# EAGLE library part 7508113417 (library WE-OLTI)
WE-OLTI Offline Flyback Transformers Characteristics Nominal input voltage: 85–265 VAC (120–375 VDC) Small size Low leakage inductance Multiple-output options Operating temperature: −40 °C to +125 °C Isolation Voltage: 2 kVAC to 5 kVAC Options for fixed frequency or quasi-resonant mode operation Most products meet reinforced insulation Applications Industrial controls USB chargers Utility metering devices Process controls Factory automation Security systems Garage door opener auxiliary supplies Home appliances Especially designed for several ICs from Texas Instruments Details see: www.we-online.com/en/components/products/WE-OLTI Created by Ella 2025-02-06 2025 (C) Würth Elektronik
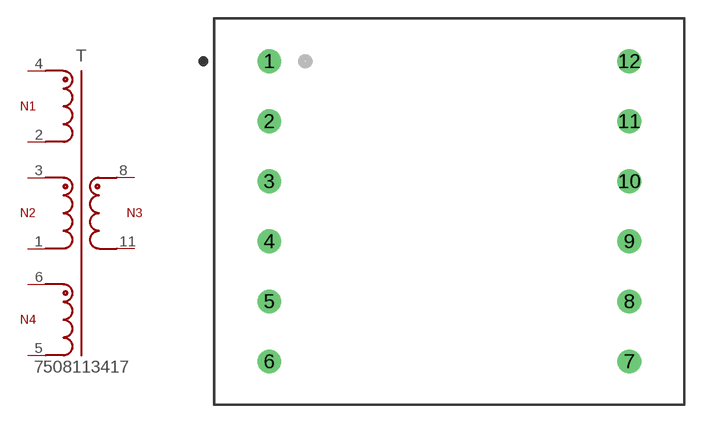
[diagram p18: symbol with the pads of WE-OLTI_ER28/17_L32W39H36; footprint WE-OLTI_ER28/17_L32W39H36]

Designator prefix T

## 7508113417 (AUXILIARY_VOLTAGE_1: 11 V; CATEGORY: Transformers; DATASHEET: https://www.we-online.com/redexpert/spec/7508113417?ae; HEIGHT: 36 mm; INDUCTANCE: 140 uH; INPUT_VOLTAGE: 64 - 265 V (AC); INSULATION_TEST_VOLTAGE: 3000 V (AC); LENGTH: 32 mm; MANUFACTURER: Würth Elektronik; MOUNT: THT; MPN: 7508113417; OUTPUT_CURRENT_1: 3850 mA; OUTPUT_VOLTAGE_1: 19 V; SATURATION_CURRENT: 9.1 A; SIZE: ER28/17; SWITCHING-FREQUENCY: 30 - 130kHz; TURNS_RATIO: 3.25:1:0.58; VALUE: 140 uH; WIDTH: 39 mm)  [WE-OLTI_ER28/17_L32W39H36]
1  1  pas
2  2  pas
3  3  pas
4  4  pas
5  5  pas
6  6  pas
8  8  pas
11  11  pas

## Footprint WE-OLTI_ER28/17_L32W39H36 (pad centres in mm)
WE-OLTI Offline Flyback Transformers Size: ER28/17,THT,12pins LXWXH=32X39X36mm Bobbin: 070-5652
drill 1.32: 1 -15,12.5; 2 -15,7.5; 3 -15,2.5; 4 -15,-2.5; 5 -15,-7.5; 6 -15,-12.5; 7 15,-12.5; 8 15,-7.5; 9 15,-2.5; 10 15,2.5; 11 15,7.5; 12 15,12.5